# EAGLE library part LM25575 (library JLB6_power)
LM25575 regul 6-42V synchro
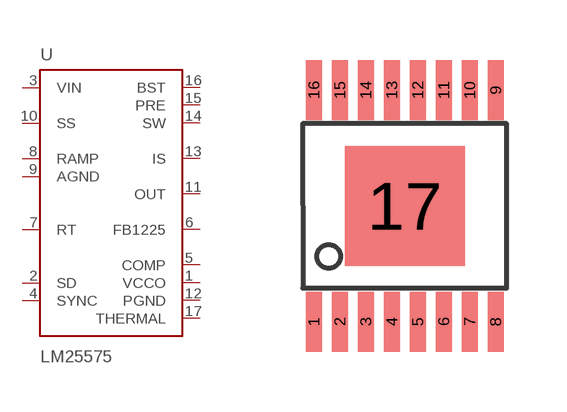
[diagram p3: symbol with the pads of TSSOP16; footprint TSSOP16]

Designator prefix U

## LM25575  [TSSOP16]
1  VCCO  pwr
2  SD  pas
3  VIN  in
4  SYNC  pas
5  COMP
6  FB1225  in
7  RT  pas
8  RAMP  pas
9  AGND  pwr
10  SS
11  OUT
12  PGND  pwr
13  IS  pas
14  SW  out
15  PRE  oc
16  BST  pas
17  THERMAL  pwr

## Footprint TSSOP16 (pad centres in mm)
smd 0.4 x 1.5: 1 -2.274,-2.9; 2 -1.624,-2.9; 3 -0.974,-2.9; 4 -0.324,-2.9; 5 0.326,-2.9; 6 0.976,-2.9; 7 1.626,-2.9; 8 2.276,-2.9; 9 2.276,2.9; 10 1.626,2.9; 11 0.976,2.9; 12 0.326,2.9; 13 -0.324,2.9; 14 -0.974,2.9; 15 -1.624,2.9; 16 -2.274,2.9
smd 3 x 3: 17 0,0